# Altium schematic symbol library WE-GDTI.SchLib: 6 symbols
Pins are listed as number, name and electrical type; pins without a type are passive.

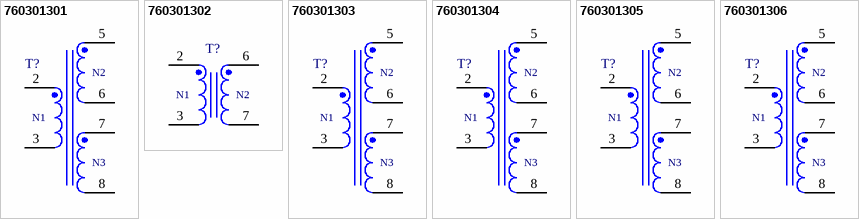
[diagram p0: symbols 760301301 to 760301306]

## 760301301
designator T?  (value not drawn)
WE-GDTI SMT Gate-Drive-Transformer, EP7, 750μH, 1:1:1, 80VDC; Manufacturer: Wurth Elektronik; DC Resistance 1: 1.1Ω; DC Resistance 2: 1.3Ω; Insulation Test Voltage: 2500VAC; Interwinding Capacitance: 11pF; Leakage Inductance: 4μH; Number of Windings: 3; Voltage-µSecond: 102μVs; Manufacturer Part Number: 760301301; Category: Gate Drive Transformers; Match Code: WE-GDTI; ComponentLink1Description: Website Link; ComponentLink1URL: https://www.we-online.com/redexpert/article/760301301?ad; ComponentLink2Description: Datasheet Link; ComponentLink2URL: https://www.we-online.com/redexpert/spec/760301301?ad; Mount: Surface Mount; Min Operating Temperature: -40°C; Max Operating Temperature: 125°C; Packaging: Tape and Reel; Case/Size Code: EP7; Length: 10.5mm; Width: 9.8mm; Height: 11mm; DC Resistance 3: 1.3Ω; Inductance: 750μH; Rated Voltage: 80VDC; Turns Ratio: 1:1:1
footprint WE-GDTI_EP7
simulation model 760301301
pins: 2, 3, 5, 6, 7, 8
text: N2; N1; N3

## 760301302
designator T?  (value not drawn)
WE-GDTI SMT Gate-Drive-Transformer, EP7, 750μH, 1:1, 80VDC; Manufacturer: Wurth Elektronik; DC Resistance 1: 1.1Ω; DC Resistance 2: 1.3Ω; Insulation Test Voltage: 2500VAC; Interwinding Capacitance: 11pF; Leakage Inductance: 4μH; Number of Windings: 2; Voltage-µSecond: 102μVs; Manufacturer Part Number: 760301302; Category: Gate Drive Transformers; Match Code: WE-GDTI; ComponentLink1Description: Website Link; ComponentLink1URL: https://www.we-online.com/redexpert/article/760301302?ad; ComponentLink2Description: Datasheet Link; ComponentLink2URL: https://www.we-online.com/redexpert/spec/760301302?ad; Mount: Surface Mount; Min Operating Temperature: -40°C; Max Operating Temperature: 125°C; Packaging: Tape and Reel; Case/Size Code: EP7; Length: 10.5mm; Width: 9.8mm; Height: 11mm; Inductance: 750μH; Rated Voltage: 80VDC; Turns Ratio: 1:1
footprint WE-GDTI_EP7
simulation model 760301302
pins: 2, 3, 6, 7
text: N1; N2

## 760301303
designator T?  (value not drawn)
WE-GDTI SMT Gate-Drive-Transformer, EP7, 750μH, 2:1:1, 80VDC; Manufacturer: Wurth Elektronik; DC Resistance 1: 1.1Ω; DC Resistance 2: 0.7Ω; Insulation Test Voltage: 2500VAC; Interwinding Capacitance: 11pF; Leakage Inductance: 4μH; Number of Windings: 3; Voltage-µSecond: 102μVs; Manufacturer Part Number: 760301303; Category: Gate Drive Transformers; Match Code: WE-GDTI; ComponentLink1Description: Website Link; ComponentLink1URL: https://www.we-online.com/redexpert/article/760301303?ad; ComponentLink2Description: Datasheet Link; ComponentLink2URL: https://www.we-online.com/redexpert/spec/760301303?ad; Mount: Surface Mount; Min Operating Temperature: -40°C; Max Operating Temperature: 125°C; Packaging: Tape and Reel; Case/Size Code: EP7; Length: 10.5mm; Width: 9.8mm; Height: 11mm; DC Resistance 3: 0.7Ω; Inductance: 750μH; Rated Voltage: 80VDC; Turns Ratio: 2:1:1
footprint WE-GDTI_EP7
simulation model 760301303
pins: 2, 3, 5, 6, 7, 8
text: N2; N1; N3

## 760301304
designator T?  (value not drawn)
WE-GDTI SMT Gate-Drive-Transformer, EP7, 1080μH, 2.5:1:1, 80VDC; Manufacturer: Wurth Elektronik; DC Resistance 1: 1.3Ω; DC Resistance 2: 0.6Ω; Insulation Test Voltage: 2500VAC; Interwinding Capacitance: 11pF; Leakage Inductance: 5μH; Number of Windings: 3; Voltage-µSecond: 120μVs; Manufacturer Part Number: 760301304; Category: Gate Drive Transformers; Match Code: WE-GDTI; ComponentLink1Description: Website Link; ComponentLink1URL: https://www.we-online.com/redexpert/article/760301304?ad; ComponentLink2Description: Datasheet Link; ComponentLink2URL: https://www.we-online.com/redexpert/spec/760301304?ad; Mount: Surface Mount; Min Operating Temperature: -40°C; Max Operating Temperature: 125°C; Packaging: Tape and Reel; Case/Size Code: EP7; Length: 10.5mm; Width: 9.8mm; Height: 11mm; DC Resistance 3: 0.6Ω; Inductance: 1080μH; Rated Voltage: 80VDC; Turns Ratio: 2.5:1:1
footprint WE-GDTI_EP7
simulation model 760301304
pins: 2, 3, 5, 6, 7, 8
text: N2; N1; N3

## 760301305
designator T?  (value not drawn)
WE-GDTI SMT Gate-Drive-Transformer, EP7, 735μH, 1.5:1:1, 80VDC; Manufacturer: Wurth Elektronik; DC Resistance 1: 1Ω; DC Resistance 2: 0.9Ω; Insulation Test Voltage: 2500VAC; Interwinding Capacitance: 11pF; Leakage Inductance: 3.5μH; Number of Windings: 3; Voltage-µSecond: 99μVs; Manufacturer Part Number: 760301305; Category: Gate Drive Transformers; Match Code: WE-GDTI; ComponentLink1Description: Website Link; ComponentLink1URL: https://www.we-online.com/redexpert/article/760301305?ad; ComponentLink2Description: Datasheet Link; ComponentLink2URL: https://www.we-online.com/redexpert/spec/760301305?ad; Mount: Surface Mount; Min Operating Temperature: -40°C; Max Operating Temperature: 125°C; Packaging: Tape and Reel; Case/Size Code: EP7; Length: 10.5mm; Width: 9.8mm; Height: 11mm; DC Resistance 3: 0.9Ω; Inductance: 735μH; Rated Voltage: 80VDC; Turns Ratio: 1.5:1:1
footprint WE-GDTI_EP7
simulation model 760301305
pins: 2, 3, 5, 6, 7, 8
text: N2; N1; N3

## 760301306
designator T?  (value not drawn)
WE-GDTI SMT Gate-Drive-Transformer, EP7, 1800μH, 3:1:1, 80VDC; Manufacturer: Wurth Elektronik; DC Resistance 1: 1.6Ω; DC Resistance 2: 0.65Ω; Insulation Test Voltage: 2500VAC; Interwinding Capacitance: 11pF; Leakage Inductance: 7.5μH; Number of Windings: 3; Voltage-µSecond: 140μVs; Manufacturer Part Number: 760301306; Category: Gate Drive Transformers; Match Code: WE-GDTI; ComponentLink1Description: Website Link; ComponentLink1URL: https://www.we-online.com/redexpert/article/760301306?ad; ComponentLink2Description: Datasheet Link; ComponentLink2URL: https://www.we-online.com/redexpert/spec/760301306?ad; Mount: Surface Mount; Min Operating Temperature: -40°C; Max Operating Temperature: 125°C; Packaging: Tape and Reel; Case/Size Code: EP7; Length: 10.5mm; Width: 9.8mm; Height: 11mm; DC Resistance 3: 0.65Ω; Inductance: 1800μH; Rated Voltage: 80VDC; Turns Ratio: 3:1:1
footprint WE-GDTI_EP7
simulation model 760301306
pins: 2, 3, 5, 6, 7, 8
text: N2; N1; N3